# Altium schematic symbol library PCW1D-C24-KAB104L.SchLib: 1 symbol
Pins are listed as number, name and electrical type; pins without a type are passive.

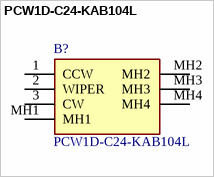
[diagram p0: symbol PCW1D-C24-KAB104L]

## PCW1D-C24-KAB104L
designator B?
Potentiometers 100K 20% Sq 22mm Single Turn; Manufacturer_Name: Bourns; Geometry.Height: 27.31mm; Mouser Part Number: *; Mouser Price/Stock: *; Manufacturer_Part_Number: PCW1D-C24-KAB104L; Datasheet Link: https://www.bourns.com/docs/Product-Datasheets/slimline.pdf
footprint PCW1DC24KAB104L
pins: 1 CCW, 2 WIPER, 3 CW, MH1, MH2, MH3, MH4